# EAGLE library part CY15B104Q-LHXI (library milliLearn-ice40)
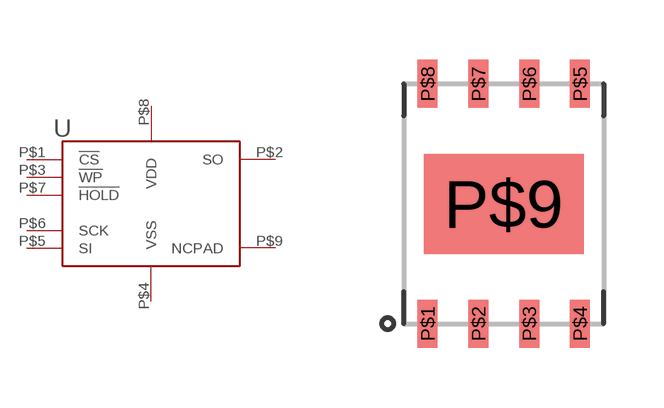
[diagram p2: symbol with the pads of CY15B104Q-LHXI; footprint CY15B104Q-LHXI]

Designator prefix U

## CY15B104Q-LHXI (MANUFACTURER: Cypress; MFG_PN: CY15B104Q-LHXI)  [CY15B104Q-LHXI]
P$1  !CS
P$2  SO
P$3  !WP
P$4  VSS
P$5  SI
P$6  SCK
P$7  !HOLD
P$8  VDD
P$9  NCPAD

## Footprint CY15B104Q-LHXI (pad centres in mm)
smd 0.5 x 1.2: P$1 -1.905,-3; P$2 -0.635,-3; P$3 0.635,-3; P$4 1.905,-3; P$5 1.905,3; P$6 0.635,3; P$7 -0.635,3; P$8 -1.905,3
smd 4 x 2.5: P$9 0,0